# Altium footprint library FlybckTrans_Wurth_750310742_10PinSMD.PcbLib: 1 footprints
Each footprint in its own frame and in the unit in brackets; x right, y up, seen from the top. Pads: shape width x height; smd on the part's side, far side on the other; paste and mask are expansions set on the pad; w line width, h text height; cw(c..) or ccw(c..) is an arc to the next point about the centre after c.
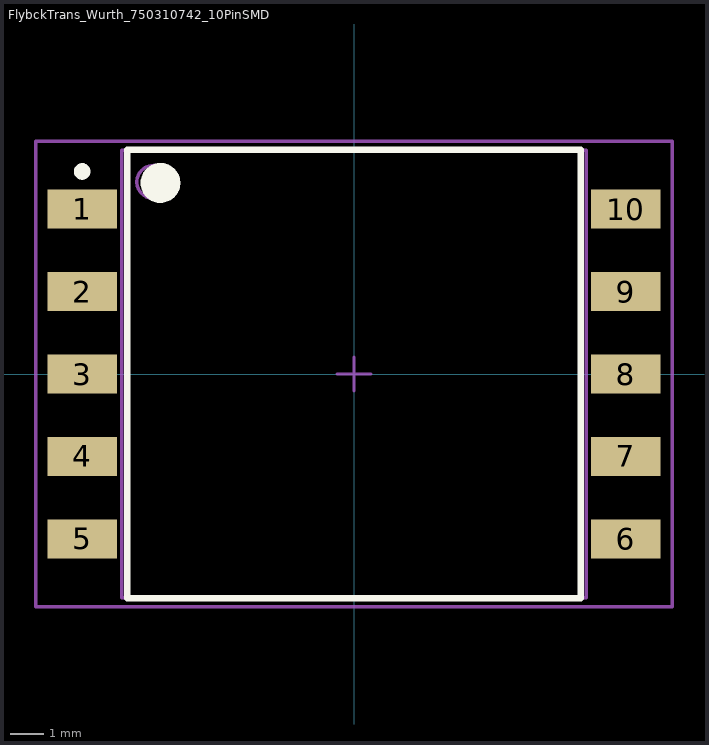
[diagram p0: the footprint, top view; thin cyan lines are the x and y axes]

## FlybckTrans_Wurth_750310742_10PinSMD [mm]
height 20
pads (10):
  rect 2.1x1.17 smd: 1(-8.18,4.96) 2(-8.18,2.48) 3(-8.18,0) 4(-8.18,-2.48) 5(-8.18,-4.96) 6(8.18,-4.96) 7(8.18,-2.48) 8(8.18,0) 9(8.18,2.48) 10(8.18,4.96)
Top Overlay:
  circle w0.6: c-5.825,5.75 r0.3
  circle w0.25: c-8.18,6.095 r0.125
  lines w0.2: -6.825,-6.75 6.825,-6.75 6.825,6.75 -6.825,6.75 -6.825,-6.75
Mechanical 13:
  circle w0.1: c-6.035,5.78 r0.5
  lines w0.1: -6.985,-6.73 6.985,-6.73 6.985,6.73 -6.985,6.73 -6.985,-6.73
Mechanical 15:
  lines w0.1: -0.5,0 0.5,0 ; 0,-0.5 0,0.5 ; -9.575,-7 9.575,-7 9.575,7 -9.575,7 -9.575,-7
3D body: height 20, standoff 0.1, extent -6.985,-6.73 6.985,6.73